# Altium integrated library Analog Devices Data Converters Analog-to-Digital Converters.IntLib: 2404 symbols (part 59 of 346)
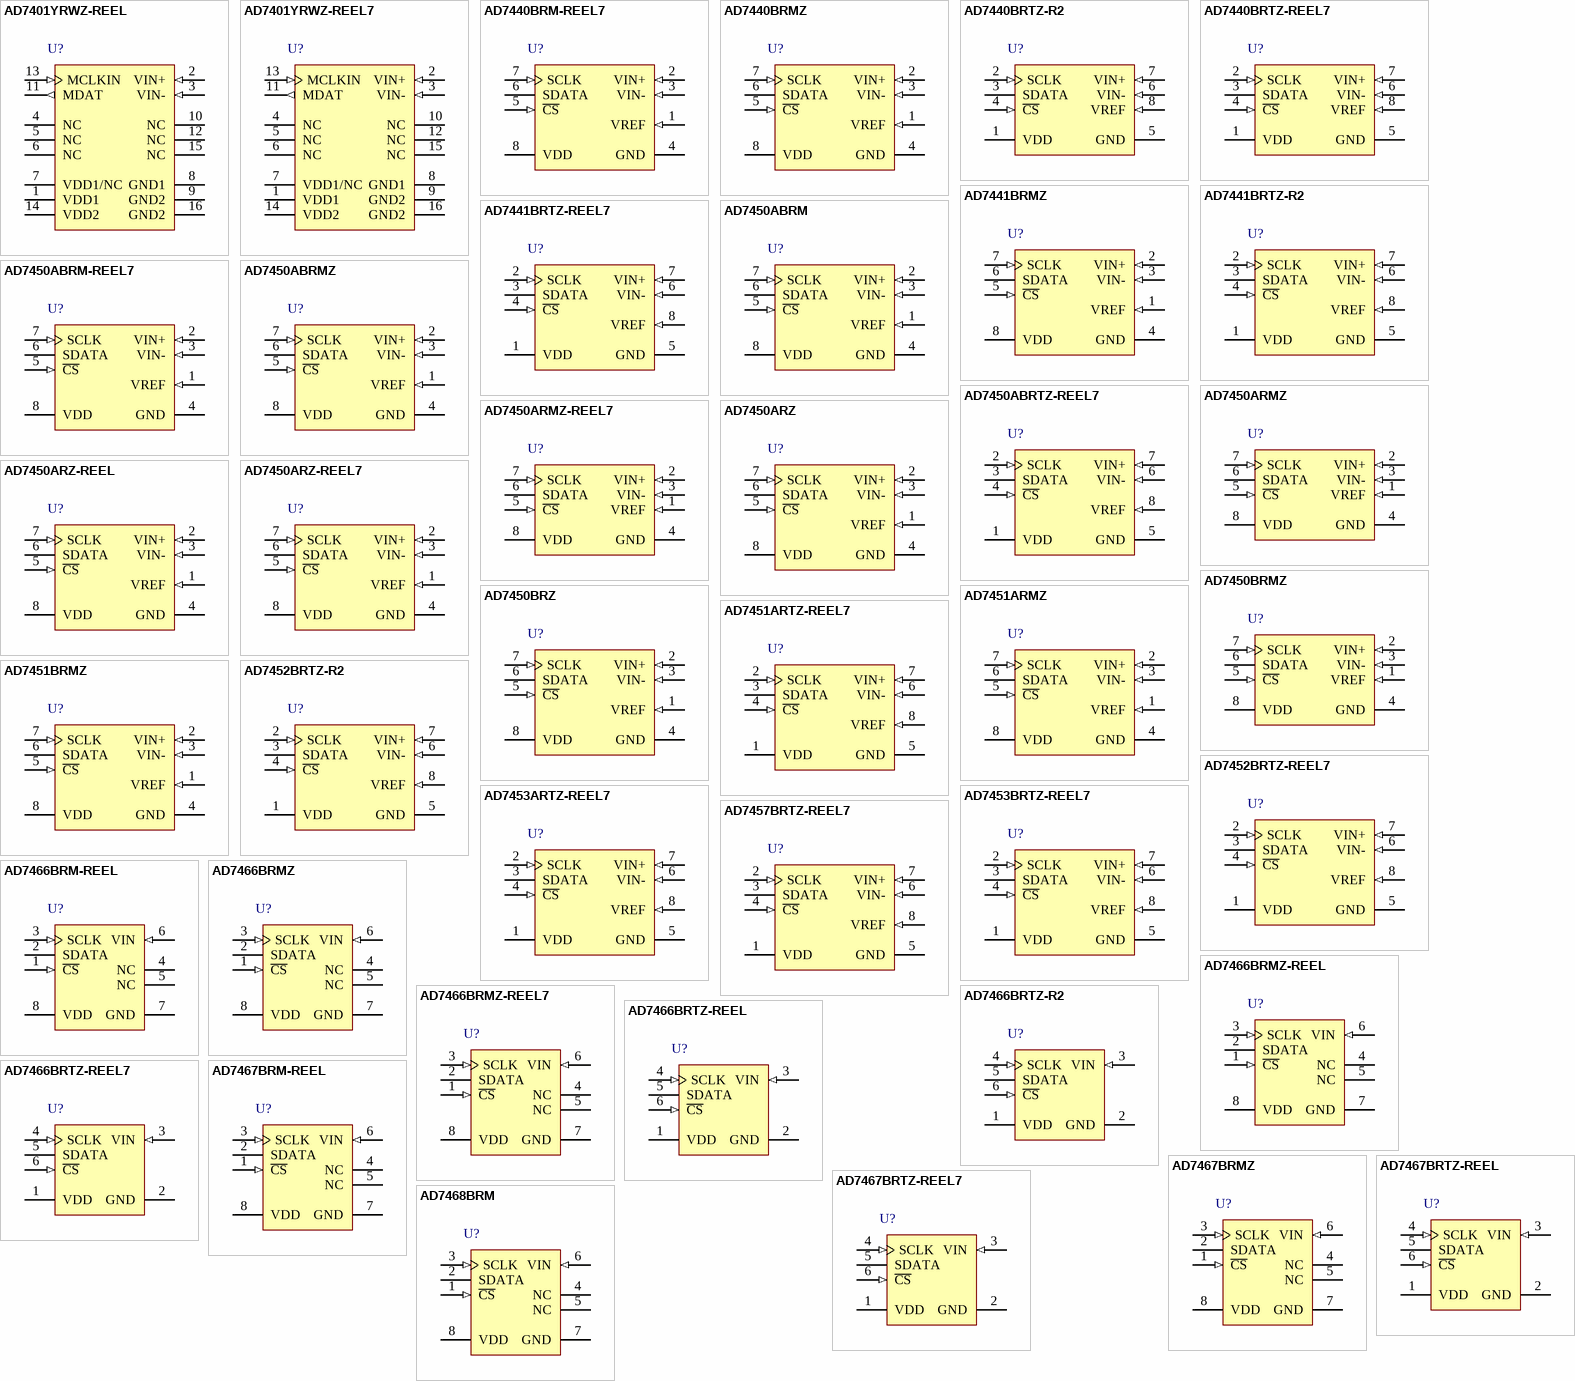
[diagram p287: symbols AD7401YRWZ-REEL to AD7468BRM]

## AD7401YRWZ-REEL7
designator U?
Isolated Sigma-Delta Modulator with Serial Interface, 20MSPS, -40 to +105 degC, RW-16, Pb-Free, Reel; Generic Part Number: AD7401; Manufacturer: Analog Devices; PartNumber: AD7401YRWZ-REEL7; Resolution (Bits): 16; Channels: 1; Throughput Rate (SPS): 20M; Interface: Ser; DatasheetVersion: Rev.D; PackageVersion: 032707-B; PackageReference: RW-16; PackageDescription: 16-Lead Standard Small Outline Package [SOIC_W]; Supplier 1: Digi-Key; Supplier Part Number 1: AD7401YRWZ-REEL7-ND; Supplier 2: Mouser; Supplier Part Number 2: 584-AD7401YRWZ-R7; RoHS: Y; Packing: Reel; Mounting Technology: Surface Mount; Code_JEDEC: MS-013-AA; Code_IPC: SOIC127P1030-16; ComponentLink1Description: Manufacturer URL; ComponentLink1URL: http://www.analog.com/en/index.html; ComponentLink2Description: Datasheet; ComponentLink2URL: http://www.analog.com/static/imported-files/data_sheets/AD7401.pdf; ComponentLink3Description: Package Specification; ComponentLink3URL: http://www.analog.com/static/imported-files/packages/PKG_PDF/SOIC_WIDE%20%28RW%29/RW_16.pdf; ComponentLink4Description: Product URL; ComponentLink4URL: http://www.analog.com/en/analog-to-digital-converters/ad-converters/ad7401/products/product.html
footprint RW-16_N (SOIC, 16-Leads, Body 10.3x7.5mm, Pitch 1.27mm, IPC Medium Density)
footprint RW-16_L (SOIC, 16-Leads, Body 10.3x7.5mm, Pitch 1.27mm, IPC High Density)
footprint RW-16_M (SOIC, 16-Leads, Body 10.3x7.5mm, Pitch 1.27mm, IPC Low Density)
pins: 1 VDD1 (power) "Supply Voltage. 4.5 V to 5.25 V. This is the supply voltage for the isolated side of the AD7401 and is relative to GND1.", 2 VIN+ (in) "Positive Analog Input. Specified range of +/-200 mV.", 3 VIN- (in) "Negative Analog Input. Normally connected to GND1.", 4 NC "No Connect.", 5 NC "No Connect.", 6 NC "No Connect.", 7 VDD1/NC (power) "Supply Voltage. 4.5 V to 5.25 V. This is the supply voltage for the isolated side of the AD7401 and is relative to GND1. No Connect (NC). If desired, Pin 7 may be allowed to float. It should not be tied to ground. The AD7401 (See Datasheet)", 8 GND1 (power) "Ground 1. This is the ground reference point for all circuitry on the isolated side.", 9 GND2 (power) "Ground 2. This is the ground reference point for all circuitry on the nonisolated side.", 10 NC "No Connect.", 11 MDAT (out) "Serial Data Output. The single bit modulator output is supplied to this pin as a serial data stream. The bits are clocked out on the rising edge of the MCLKIN input and valid on the following MCLKIN rising edge.", 12 NC "No Connect.", 13 MCLKIN (in) "Master Clock Logic Input. 20 MHz maximum. The bit stream from the modulator is valid on the rising edge of MCLKIN.", 14 VDD2 (power) "Supply Voltage. 3 V to 5.5 V. This is the supply voltage for the nonisolated side and is relative to GND2.", 15 NC "No Connect.", 16 GND2 (power) "Ground 2. This is the ground reference point for all circuitry on the nonisolated side."

## AD7440BRM-REEL7
designator U?
Single 10-Bit Analog-to-Digital Converter with Serial, SPI Interface, 1MSPS, -40 to +85 degC, RM-8, Reel; Generic Part Number: AD7440; Manufacturer: Analog Devices; PartNumber: AD7440BRM-REEL7; Resolution (Bits): 10; Channels: 1; Throughput Rate (SPS): 1M; Interface: Ser, SPI; DatasheetVersion: Rev.C; PackageVersion: Aug-2005; PackageReference: RM-8; PackageDescription: 8-Lead Mini Small Outline Package [MSOP]; Supplier 1: Digi-Key; Supplier Part Number 1: AD7440BRM-REEL7TR-ND; Supplier 2: Digi-Key; Supplier Part Number 2: AD7440BRM-REEL7CT-ND; Supplier 3: Digi-Key; Supplier Part Number 3: AD7440BRM-REEL7DKR-ND; Supplier 4: Mouser; Supplier Part Number 4: 584-AD7440BRM-R7; RoHS: N; Packing: Reel; Mounting Technology: Surface Mount; Code_JEDEC: MO-187-AA; ComponentLink1Description: Manufacturer URL; ComponentLink1URL: http://www.analog.com/en/index.html; ComponentLink2Description: Datasheet; ComponentLink2URL: http://www.analog.com/static/imported-files/data_sheets/AD7440_7450A.pdf; ComponentLink3Description: Package Specification; ComponentLink3URL: http://www.analog.com/static/imported-files/packages/PKG_PDF/MSOP%28RM%29/RM_8.pdf; ComponentLink4Description: Product URL; ComponentLink4URL: http://www.analog.com/en/analog-to-digital-converters/ad-converters/ad7440/products/product.html
footprint RM-8_N (TSOP, 8-Leads, Body 3x3mm, Pitch 0.65mm, IPC Medium Density)
footprint RM-8_L (TSOP, 8-Leads, Body 3x3mm, Pitch 0.65mm, IPC High Density)
footprint RM-8_M (TSOP, 8-Leads, Body 3x3mm, Pitch 0.65mm, IPC Low Density)
pins: 1 VREF (in) "Reference Input for the AD7440. An external reference must be applied to this input. For a 5 V power supply, the reference is 2.5 V (+/-1%) for specified performance. For a 3 V power supply, the reference is 2 V (+/-1%) for (See Datasheet)", 2 VIN+ (in) "Positive Terminal for Differential Analog Input.", 3 VIN- (in) "Negative Terminal for Differential Analog Input.", 4 GND (power) "Analog Ground. Ground reference point for all circuitry on the AD7440. All analog input signals and any external reference signal should be referred to this GND voltage.", 5 ~{CS} (in) "Chip Select. Active low logic input. This input provides the dual function of initiating a conversion on the AD7440 and framing the serial data transfer.", 6 SDATA (hiz) "Serial Data. Logic output. The conversion result from the AD7440 is provided on this output as a serial data stream. The bits are clocked out on the falling edge of the SCLK input. The data stream of the AD7450A consists of (See Datasheet)", 7 SCLK (in) "Serial Clock. Logic input. SCLK provides the serial clock for accessing data from the part. This clock input is also used as the clock source for the conversion process.", 8 VDD (power) "Power Supply Input. VDD is 3 V (+20%/-10%) or 5 V (+/-5%). This supply should be decoupled to GND with a 0.1 uF capacitor and a 10 uF tantalum capacitor in parallel."

## AD7440BRMZ
designator U?
Single 10-Bit Analog-to-Digital Converter with Serial, SPI Interface, 1MSPS, -40 to +85 degC, RM-8, Pb-Free, Tube; Generic Part Number: AD7440; Manufacturer: Analog Devices; PartNumber: AD7440BRMZ; Resolution (Bits): 10; Channels: 1; Throughput Rate (SPS): 1M; Interface: Ser, SPI; DatasheetVersion: Rev.C; PackageVersion: Aug-2005; PackageReference: RM-8; PackageDescription: 8-Lead Mini Small Outline Package [MSOP]; Supplier 1: Digi-Key; Supplier Part Number 1: AD7440BRMZ-ND; Supplier 2: Farnell; Supplier Part Number 2: 1438841; Supplier 3: Mouser; Supplier Part Number 3: 584-AD7440BRMZ; RoHS: Y; Packing: Tube; Mounting Technology: Surface Mount; Code_JEDEC: MO-187-AA; ComponentLink1Description: Manufacturer URL; ComponentLink1URL: http://www.analog.com/en/index.html; ComponentLink2Description: Datasheet; ComponentLink2URL: http://www.analog.com/static/imported-files/data_sheets/AD7440_7450A.pdf; ComponentLink3Description: Package Specification; ComponentLink3URL: http://www.analog.com/static/imported-files/packages/PKG_PDF/MSOP%28RM%29/RM_8.pdf; ComponentLink4Description: Product URL; ComponentLink4URL: http://www.analog.com/en/analog-to-digital-converters/ad-converters/ad7440/products/product.html
footprint RM-8_N (TSOP, 8-Leads, Body 3x3mm, Pitch 0.65mm, IPC Medium Density)
footprint RM-8_L (TSOP, 8-Leads, Body 3x3mm, Pitch 0.65mm, IPC High Density)
footprint RM-8_M (TSOP, 8-Leads, Body 3x3mm, Pitch 0.65mm, IPC Low Density)
pins: 1 VREF (in) "Reference Input for the AD7440. An external reference must be applied to this input. For a 5 V power supply, the reference is 2.5 V (+/-1%) for specified performance. For a 3 V power supply, the reference is 2 V (+/-1%) for (See Datasheet)", 2 VIN+ (in) "Positive Terminal for Differential Analog Input.", 3 VIN- (in) "Negative Terminal for Differential Analog Input.", 4 GND (power) "Analog Ground. Ground reference point for all circuitry on the AD7440. All analog input signals and any external reference signal should be referred to this GND voltage.", 5 ~{CS} (in) "Chip Select. Active low logic input. This input provides the dual function of initiating a conversion on the AD7440 and framing the serial data transfer.", 6 SDATA (hiz) "Serial Data. Logic output. The conversion result from the AD7440 is provided on this output as a serial data stream. The bits are clocked out on the falling edge of the SCLK input. The data stream of the AD7450A consists of (See Datasheet)", 7 SCLK (in) "Serial Clock. Logic input. SCLK provides the serial clock for accessing data from the part. This clock input is also used as the clock source for the conversion process.", 8 VDD (power) "Power Supply Input. VDD is 3 V (+20%/-10%) or 5 V (+/-5%). This supply should be decoupled to GND with a 0.1 uF capacitor and a 10 uF tantalum capacitor in parallel."

## AD7440BRTZ-R2
designator U?
Single 10-Bit Analog-to-Digital Converter with Serial, SPI Interface, 1MSPS, -40 to +85 degC, RJ-8, Pb-Free, Reel; Generic Part Number: AD7440; Manufacturer: Analog Devices; PartNumber: AD7440BRTZ-R2; Resolution (Bits): 10; Channels: 1; Throughput Rate (SPS): 1M; Interface: Ser, SPI; DatasheetVersion: Rev.C; PackageVersion: 121608-A; PackageReference: RJ-8; PackageDescription: 8-Lead Thin Small Outline Transistor Package [SOT-23]; Supplier 1: Digi-Key; Supplier Part Number 1: AD7440BRTZ-R2TR-ND; Supplier 2: Digi-Key; Supplier Part Number 2: AD7440BRTZ-R2CT-ND; Supplier 3: Digi-Key; Supplier Part Number 3: AD7440BRTZ-R2DKR-ND; Supplier 4: Mouser; Supplier Part Number 4: 584-AD7440BRTZ-R2; RoHS: Y; Packing: Reel; Mounting Technology: Surface Mount; Code_JEDEC: MO-178-BA; ComponentLink1Description: Manufacturer URL; ComponentLink1URL: http://www.analog.com/en/index.html; ComponentLink2Description: Datasheet; ComponentLink2URL: http://www.analog.com/static/imported-files/data_sheets/AD7440_7450A.pdf; ComponentLink3Description: Package Specification; ComponentLink3URL: http://www.analog.com/static/imported-files/packages/PKG_PDF/SOT-23(RJ)/RJ_8.pdf; ComponentLink4Description: Product URL; ComponentLink4URL: http://www.analog.com/en/analog-to-digital-converters/ad-converters/ad7440/products/product.html
footprint RJ-8_N (SOP, 8-Leads, Body 2.9x1.6mm, Pitch 0.65mm, IPC Medium Density)
footprint RJ-8_L (SOP, 8-Leads, Body 2.9x1.6mm, Pitch 0.65mm, IPC High Density)
footprint RJ-8_M (SOP, 8-Leads, Body 2.9x1.6mm, Pitch 0.65mm, IPC Low Density)
pins: 1 VDD (power) "Power Supply Input. VDD is 3 V (+20%/-10%) or 5 V (+/-5%). This supply should be decoupled to GND with a 0.1 uF capacitor and a 10 uF tantalum capacitor in parallel.", 2 SCLK (in) "Serial Clock. Logic input. SCLK provides the serial clock for accessing data from the part. This clock input is also used as the clock source for the conversion process.", 3 SDATA (hiz) "Serial Data. Logic output. The conversion result from the AD7440/AD7450A is provided on this output as a serial data stream. The bits are clocked out on the falling edge of the SCLK input. The data stream of the AD7450A (See Datasheet)", 4 ~{CS} (in) "Chip Select. Active low logic input. This input provides the dual function of initiating a conversion on the AD7440/AD7450A and framing the serial data transfer.", 5 GND (power) "Analog Ground. Ground reference point for all circuitry on the AD7440/AD7450A. All analog input signals and any external reference signal should be referred to this GND voltage.", 6 VIN- (in) "Negative Terminal for Differential Analog Input.", 7 VIN+ (in) "Positive Terminal for Differential Analog Input.", 8 VREF (in) "Reference Input for the AD7440/AD7450A. An external reference must be applied to this input. For a 5 V power supply, the reference is 2.5 V (+/-1%) for specified performance. For a 3 V power supply, the reference is 2 V (See Datasheet)"

## AD7440BRTZ-REEL7
designator U?
Single 10-Bit Analog-to-Digital Converter with Serial, SPI Interface, 1MSPS, -40 to +85 degC, RJ-8, Pb-Free, Reel; Generic Part Number: AD7440; Manufacturer: Analog Devices; PartNumber: AD7440BRTZ-REEL7; Resolution (Bits): 10; Channels: 1; Throughput Rate (SPS): 1M; Interface: Ser, SPI; DatasheetVersion: Rev.C; PackageVersion: 121608-A; PackageReference: RJ-8; PackageDescription: 8-Lead Thin Small Outline Transistor Package [SOT-23]; Supplier 1: Digi-Key; Supplier Part Number 1: AD7440BRTZ-REEL7TR-ND; Supplier 2: Digi-Key; Supplier Part Number 2: AD7440BRTZ-REEL7CT-ND; Supplier 3: Digi-Key; Supplier Part Number 3: AD7440BRTZ-REEL7DKR-ND; Supplier 4: Mouser; Supplier Part Number 4: 584-AD7440BRTZ-R7; RoHS: Y; Packing: Reel; Mounting Technology: Surface Mount; Code_JEDEC: MO-178-BA; ComponentLink1Description: Manufacturer URL; ComponentLink1URL: http://www.analog.com/en/index.html; ComponentLink2Description: Datasheet; ComponentLink2URL: http://www.analog.com/static/imported-files/data_sheets/AD7440_7450A.pdf; ComponentLink3Description: Package Specification; ComponentLink3URL: http://www.analog.com/static/imported-files/packages/PKG_PDF/SOT-23(RJ)/RJ_8.pdf; ComponentLink4Description: Product URL; ComponentLink4URL: http://www.analog.com/en/analog-to-digital-converters/ad-converters/ad7440/products/product.html
footprint RJ-8_N (SOP, 8-Leads, Body 2.9x1.6mm, Pitch 0.65mm, IPC Medium Density)
footprint RJ-8_L (SOP, 8-Leads, Body 2.9x1.6mm, Pitch 0.65mm, IPC High Density)
footprint RJ-8_M (SOP, 8-Leads, Body 2.9x1.6mm, Pitch 0.65mm, IPC Low Density)
pins: 1 VDD (power) "Power Supply Input. VDD is 3 V (+20%/-10%) or 5 V (+/-5%). This supply should be decoupled to GND with a 0.1 uF capacitor and a 10 uF tantalum capacitor in parallel.", 2 SCLK (in) "Serial Clock. Logic input. SCLK provides the serial clock for accessing data from the part. This clock input is also used as the clock source for the conversion process.", 3 SDATA (hiz) "Serial Data. Logic output. The conversion result from the AD7440/AD7450A is provided on this output as a serial data stream. The bits are clocked out on the falling edge of the SCLK input. The data stream of the AD7450A (See Datasheet)", 4 ~{CS} (in) "Chip Select. Active low logic input. This input provides the dual function of initiating a conversion on the AD7440/AD7450A and framing the serial data transfer.", 5 GND (power) "Analog Ground. Ground reference point for all circuitry on the AD7440/AD7450A. All analog input signals and any external reference signal should be referred to this GND voltage.", 6 VIN- (in) "Negative Terminal for Differential Analog Input.", 7 VIN+ (in) "Positive Terminal for Differential Analog Input.", 8 VREF (in) "Reference Input for the AD7440/AD7450A. An external reference must be applied to this input. For a 5 V power supply, the reference is 2.5 V (+/-1%) for specified performance. For a 3 V power supply, the reference is 2 V (See Datasheet)"

## AD7441BRMZ
designator U?
Single 10-Bit Analog-to-Digital Converter with Serial, SPI Interface, 1MSPS, -40 to +85 degC, RM-8, Pb-Free, Tube; Generic Part Number: AD7441; Manufacturer: Analog Devices; PartNumber: AD7441BRMZ; Resolution (Bits): 10; Channels: 1; Throughput Rate (SPS): 1M; Interface: Ser, SPI; DatasheetVersion: Rev.D; PackageVersion: Aug-2005; PackageReference: RM-8; PackageDescription: 8-Lead Mini Small Outline Package [MSOP]; Supplier 1: Digi-Key; Supplier Part Number 1: AD7441BRMZ-ND; Supplier 2: Newark; Supplier Part Number 2: 59K4818; Supplier 3: Mouser; Supplier Part Number 3: 584-AD7441BRMZ; RoHS: Y; Packing: Tube; Mounting Technology: Surface Mount; Code_JEDEC: MO-187-AA; ComponentLink1Description: Manufacturer URL; ComponentLink1URL: http://www.analog.com/en/index.html; ComponentLink2Description: Datasheet; ComponentLink2URL: http://www.analog.com/static/imported-files/data_sheets/AD7441_7451.pdf; ComponentLink3Description: Package Specification; ComponentLink3URL: http://www.analog.com/static/imported-files/packages/PKG_PDF/MSOP%28RM%29/RM_8.pdf; ComponentLink4Description: Product URL; ComponentLink4URL: http://www.analog.com/en/analog-to-digital-converters/ad-converters/ad7441/products/product.html
footprint RM-8_N (TSOP, 8-Leads, Body 3x3mm, Pitch 0.65mm, IPC Medium Density)
footprint RM-8_L (TSOP, 8-Leads, Body 3x3mm, Pitch 0.65mm, IPC High Density)
footprint RM-8_M (TSOP, 8-Leads, Body 3x3mm, Pitch 0.65mm, IPC Low Density)
pins: 1 VREF (in) "Reference Input for the AD7441/AD7451. An external reference in the range of 100 mV to VDD must be applied to this input. The specified reference input is 2.5 V. This pin is decoupled to GND with a capacitor of at least 0.1 (See Datasheet)", 2 VIN+ (in) "Noninverting Analog Input.", 3 VIN- (in) "Inverting Input. This pin sets the ground reference point for the VIN+ input. Connect to ground or to a dc offset to provide a pseudo ground.", 4 GND (power) "Analog Ground. Ground reference point for all circuitry on the AD7441/AD7451. All analog input signals and any external reference signal are referred to this GND voltage.", 5 ~{CS} (in) "Chip Select. Active low logic input. This input provides the dual function of initiating a conversion on the AD7441/AD7451 and framing the serial data transfer.", 6 SDATA (hiz) "Serial Data, Logic Output. The conversion result from the AD7441/AD7451 is provided on this output as a serial data stream. The bits are clocked out on the falling edge of the SCLK input. The data stream of the AD7451 (See Datasheet)", 7 SCLK (in) "Serial Clock, Logic Input. SCLK provides the serial clock for accessing data from the part. This clock input is also used as the clock source for the conversion process.", 8 VDD (power) "Power Supply Input. VDD is 2.7 V to 5.25 V. This supply is decoupled to GND with a 0.1 uF capacitor and a 10 uF tantalum capacitor."

## AD7441BRTZ-R2
designator U?
Single 10-Bit Analog-to-Digital Converter with Serial, SPI Interface, 1MSPS, -40 to +85 degC, RJ-8, Pb-Free, Reel; Generic Part Number: AD7441; Manufacturer: Analog Devices; PartNumber: AD7441BRTZ-R2; Resolution (Bits): 10; Channels: 1; Throughput Rate (SPS): 1M; Interface: Ser, SPI; DatasheetVersion: Rev.D; PackageVersion: 121608-A; PackageReference: RJ-8; PackageDescription: 8-Lead Thin Small Outline Transistor Package [SOT-23]; Supplier 1: Mouser; Supplier Part Number 1: N/A; RoHS: Y; Packing: Reel; Mounting Technology: Surface Mount; Code_JEDEC: MO-178-BA; ComponentLink1Description: Manufacturer URL; ComponentLink1URL: http://www.analog.com/en/index.html; ComponentLink2Description: Datasheet; ComponentLink2URL: http://www.analog.com/static/imported-files/data_sheets/AD7441_7451.pdf; ComponentLink3Description: Package Specification; ComponentLink3URL: http://www.analog.com/static/imported-files/packages/PKG_PDF/SOT-23(RJ)/RJ_8.pdf; ComponentLink4Description: Product URL; ComponentLink4URL: http://www.analog.com/en/analog-to-digital-converters/ad-converters/ad7441/products/product.html
footprint RJ-8_N (SOP, 8-Leads, Body 2.9x1.6mm, Pitch 0.65mm, IPC Medium Density)
footprint RJ-8_L (SOP, 8-Leads, Body 2.9x1.6mm, Pitch 0.65mm, IPC High Density)
footprint RJ-8_M (SOP, 8-Leads, Body 2.9x1.6mm, Pitch 0.65mm, IPC Low Density)
pins: 1 VDD (power) "Power Supply Input. VDD is 2.7 V to 5.25 V. This supply is decoupled to GND with a 0.1 uF capacitor and a 10 uF tantalum capacitor.", 2 SCLK (in) "Serial Clock, Logic Input. SCLK provides the serial clock for accessing data from the part. This clock input is also used as the clock source for the conversion process.", 3 SDATA (hiz) "Serial Data, Logic Output. The conversion result from the AD7441/AD7451 is provided on this output as a serial data stream. The bits are clocked out on the falling edge of the SCLK input. The data stream of the AD7451 (See Datasheet)", 4 ~{CS} (in) "Chip Select. Active low logic input. This input provides the dual function of initiating a conversion on the AD7441/AD7451 and framing the serial data transfer.", 5 GND (power) "Analog Ground. Ground reference point for all circuitry on the AD7441/AD7451. All analog input signals and any external reference signal are referred to this GND voltage.", 6 VIN- (in) "Inverting Input. This pin sets the ground reference point for the VIN+ input. Connect to ground or to a dc offset to provide a pseudo ground.", 7 VIN+ (in) "Noninverting Analog Input.", 8 VREF (in) "Reference Input for the AD7441/AD7451. An external reference in the range of 100 mV to VDD must be applied to this input. The specified reference input is 2.5 V. This pin is decoupled to GND with a capacitor of at least 0.1 (See Datasheet)"